# EAGLE library part SPARKFUN_LCD_33_SERIAL (library RemoteParts)
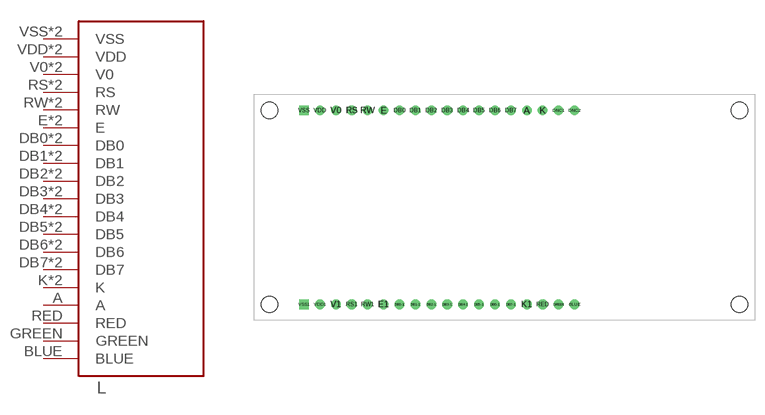
[diagram p7: symbol with the pads of SPARKFUN_LCD_33_PARALLEL; footprint SPARKFUN_LCD_33_PARALLEL]

Designator prefix L

## SPARKFUN_LCD_33_SERIAL-RGB (AUX1DIST: DIGIKEY; AUX1DISTPN: 609-3268-ND; AUX2DIST: DIGIKEY; AUX2DISTPN: S7051-ND; CREATOR: Swanson; DIST: SparkFun; DISTPN: LCD-10862; MOUNTING: TH)  [SPARKFUN_LCD_33_PARALLEL]
A  A
BLUE  BLUE
DB0  DB0
DB0-1  DB0
DB1  DB1
DB1-1  DB1
DB2  DB2
DB2-1  DB2
DB3  DB3
DB3-1  DB3
DB4  DB4
DB4-1  DB4
DB5  DB5
DB5-1  DB5
DB6  DB6
DB6-1  DB6
DB7  DB7
DB7-1  DB7
E  E
E1  E
GREEN  GREEN
K  K
K1  K
RED  RED
RS  RS
RS1  RS
RW  RW
RW1  RW
V0  V0
V1  V0
VDD  VDD
VDD1  VDD
VSS  VSS
VSS1  VSS

## Footprint SPARKFUN_LCD_33_PARALLEL (pad centres in mm)
drill 1.02: A 3.56,15.5; BLUE 11.18,-15.5; DB0 -16.76,15.5; DB0-1 -16.76,-15.5; DB1 -14.22,15.5; DB1-1 -14.22,-15.5; DB2 -11.68,15.5; DB2-1 -11.68,-15.5; DB3 -9.14,15.5; DB3-1 -9.14,-15.5; DB4 -6.6,15.5; DB4-1 -6.6,-15.5; DB5 -4.06,15.5; DB5-1 -4.06,-15.5; DB6 -1.52,15.5; DB6-1 -1.52,-15.5; DB7 1.02,15.5; DB7-1 1.02,-15.5; DNC1 8.6,15.5; DNC2 11.14,15.5; E -19.3,15.5; E1 -19.3,-15.5; GREEN 8.64,-15.5; K 6.06,15.5; K1 3.56,-15.5; RED 6.1,-15.5; RS -24.38,15.5; RS1 -24.38,-15.5; RW -21.84,15.5; RW1 -21.84,-15.5; V0 -26.92,15.5; V1 -26.92,-15.5; VDD -29.46,15.5; VDD1 -29.46,-15.5
drill 1.02 square: VSS -32,15.5; VSS1 -32,-15.5
hole 2.6 at -37.5,-15.5
hole 2.6 at -37.5,15.5
hole 2.6 at 37.5,-15.5
hole 2.6 at 37.5,15.5